# Altium footprint library PTS530GG065SMTRLFS.PcbLib: 1 footprints
Each footprint in its own frame and in the unit in brackets; x right, y up, seen from the top. Pads: shape width x height; smd on the part's side, far side on the other; paste and mask are expansions set on the pad; w line width, h text height; cw(c..) or ccw(c..) is an arc to the next point about the centre after c.
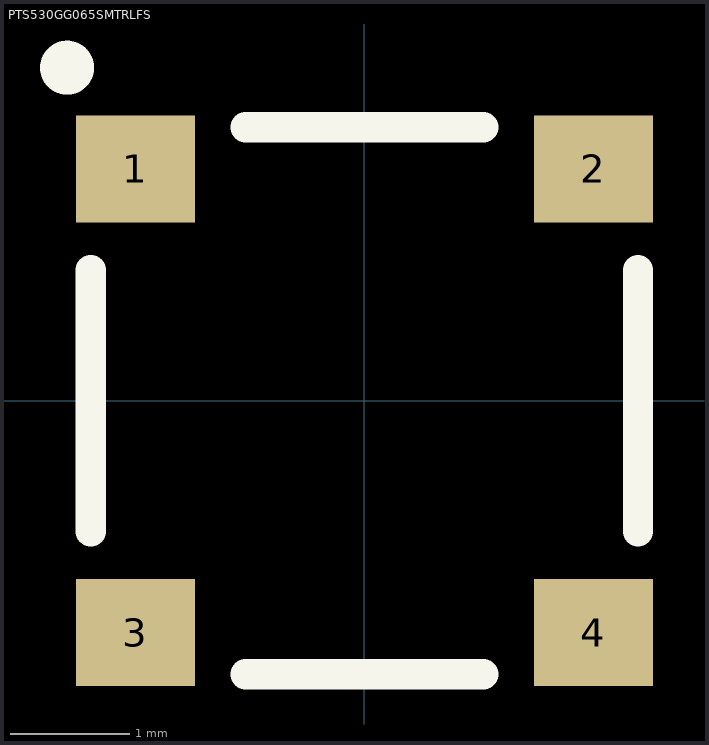
[diagram p0: the footprint, top view; thin cyan lines are the x and y axes]

## PTS530GG065SMTRLFS [mm] "Tactile Switch"
height 0.65
pads (4):
  rect 1x0.9 smd: 1(-1.925,1.95) 2(1.925,1.95) 3(-1.925,-1.95) 4(1.925,-1.95)
Top Overlay:
  circle w0.254: c-2.5,2.8 r0.1
  lines w0.254: -2.3,-1.1 -2.3,1.1 ; -1,-2.3 1,-2.3 ; -1,2.3 1,2.3 ; 2.3,-1.1 2.3,1.1
3D body "PTS530GG065SMTRLFS.stp": height 0.64, standoff 0.01, extent -2.354,-2.25 2.304,2.257